# EAGLE library part H1102NL (library personal)
Magnetics for an RJ45
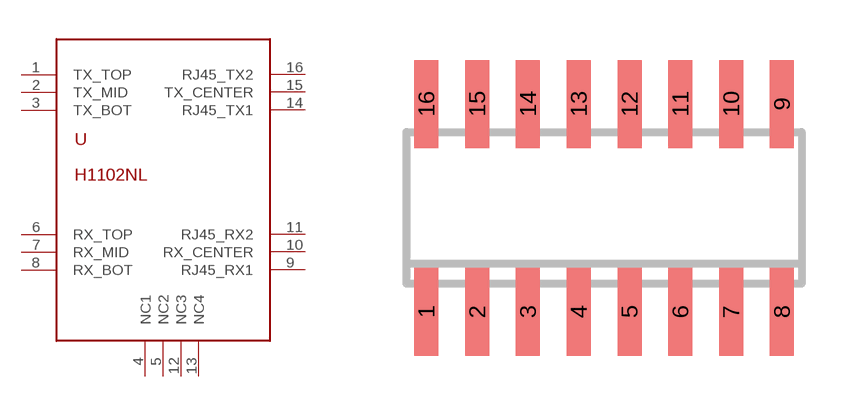
[diagram p2: symbol with the pads of SO16; footprint SO16]

Designator prefix -

## H1102NL  [SO16]
1  TX_TOP
2  TX_MID
3  TX_BOT
4  NC1  nc
5  NC2  nc
6  RX_TOP
7  RX_MID
8  RX_BOT
9  RJ45_RX1
10  RX_CENTER
11  RJ45_RX2
12  NC3
13  NC4
14  RJ45_TX1
15  TX_CENTER
16  RJ45_TX2

## Footprint SO16 (pad centres in mm)
SMALL OUTLINE INTEGRATED CIRCUIT body 3.9 mm/JEDEC MS-012AC
smd 0.6 x 2.2: 1 -4.445,-2.6; 2 -3.175,-2.6; 3 -1.905,-2.6; 4 -0.635,-2.6; 5 0.635,-2.6; 6 1.905,-2.6; 7 3.175,-2.6; 8 4.445,-2.6; 9 4.445,2.6; 10 3.175,2.6; 11 1.905,2.6; 12 0.635,2.6; 13 -0.635,2.6; 14 -1.905,2.6; 15 -3.175,2.6; 16 -4.445,2.6